# EAGLE library part EPC8 (library altera)
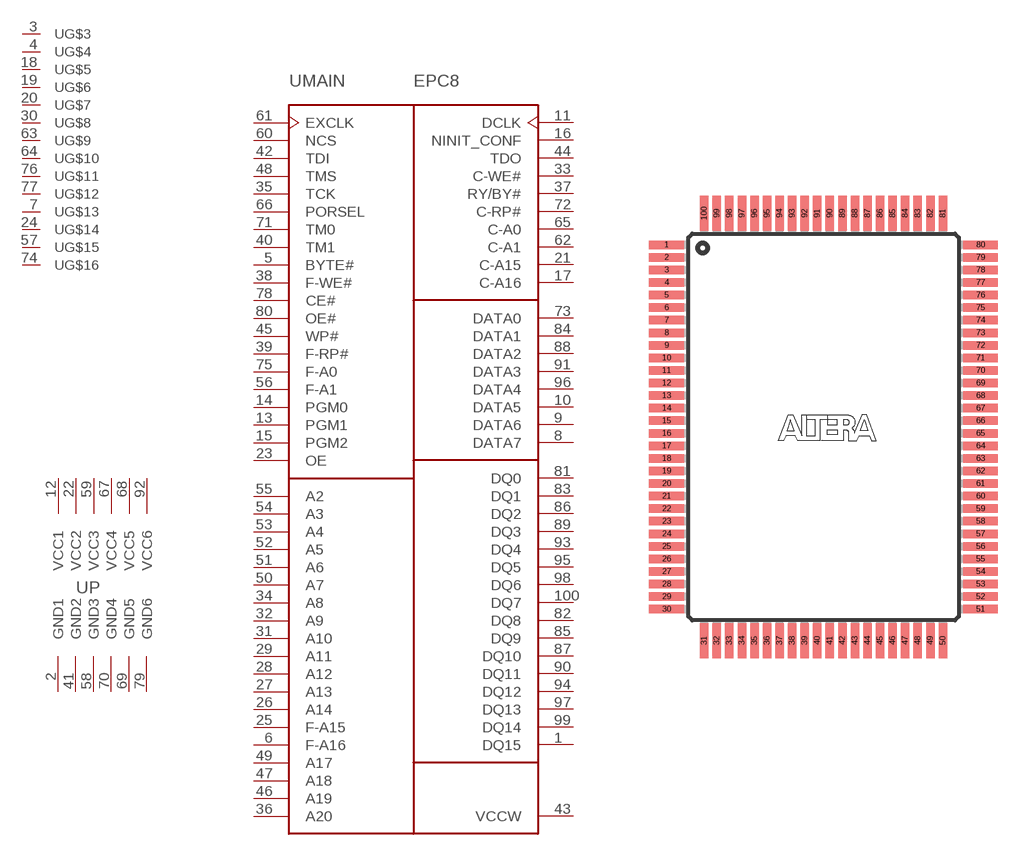
[diagram p65: symbol with the pads of PQFP100; footprint PQFP100]

Designator prefix -; gates MAIN=EPC8 P=EPC8_P G$3=NC G$4=NC G$5=NC G$6=NC G$7=NC G$8=NC G$9=NC G$10=NC G$11=NC G$12=NC G$13=NC G$14=NC G$15=NC G$16=NC

## EPC8  [PQFP100]
1  MAIN:DQ15
2  P:GND1  pwr
3  G$3:NC  nc
4  G$4:NC  nc
5  MAIN:BYTE#  in
6  MAIN:F-A16  in
7  G$13:NC  nc
8  MAIN:DATA7  out
9  MAIN:DATA6  out
10  MAIN:DATA5  out
11  MAIN:DCLK  out
12  P:VCC1  pwr
13  MAIN:PGM1  in
14  MAIN:PGM0  in
15  MAIN:PGM2  in
16  MAIN:NINIT_CONF  out
17  MAIN:C-A16  out
18  G$5:NC  nc
19  G$6:NC  nc
20  G$7:NC  nc
21  MAIN:C-A15  out
22  P:VCC2  pwr
23  MAIN:OE
24  G$14:NC  nc
25  MAIN:F-A15  in
26  MAIN:A14  in
27  MAIN:A13  in
28  MAIN:A12  in
29  MAIN:A11  in
30  G$8:NC  nc
31  MAIN:A10  in
32  MAIN:A9  in
33  MAIN:C-WE#  out
34  MAIN:A8  in
35  MAIN:TCK  in
36  MAIN:A20  in
37  MAIN:RY/BY#  out
38  MAIN:F-WE#  in
39  MAIN:F-RP#  in
40  MAIN:TM1  in
41  P:GND2  pwr
42  MAIN:TDI  in
43  MAIN:VCCW  pwr
44  MAIN:TDO  out
45  MAIN:WP#  in
46  MAIN:A19  in
47  MAIN:A18  in
48  MAIN:TMS  in
49  MAIN:A17  in
50  MAIN:A7  in
51  MAIN:A6  in
52  MAIN:A5  in
53  MAIN:A4  in
54  MAIN:A3  in
55  MAIN:A2  in
56  MAIN:F-A1  in
57  G$15:NC  nc
58  P:GND3  pwr
59  P:VCC3  pwr
60  MAIN:NCS  in
61  MAIN:EXCLK  in
62  MAIN:C-A1  out
63  G$9:NC  nc
64  G$10:NC  nc
65  MAIN:C-A0  out
66  MAIN:PORSEL  in
67  P:VCC4  pwr
68  P:VCC5  pwr
69  P:GND5  pwr
70  P:GND4  pwr
71  MAIN:TM0  in
72  MAIN:C-RP#  out
73  MAIN:DATA0  out
74  G$16:NC  nc
75  MAIN:F-A0  in
76  G$11:NC  nc
77  G$12:NC  nc
78  MAIN:CE#  in
79  P:GND6  pwr
80  MAIN:OE#  in
81  MAIN:DQ0
82  MAIN:DQ8
83  MAIN:DQ1
84  MAIN:DATA1  out
85  MAIN:DQ9
86  MAIN:DQ2
87  MAIN:DQ10
88  MAIN:DATA2  out
89  MAIN:DQ3
90  MAIN:DQ11
91  MAIN:DATA3  out
92  P:VCC6  pwr
93  MAIN:DQ4
94  MAIN:DQ12
95  MAIN:DQ5
96  MAIN:DATA4  out
97  MAIN:DQ13
98  MAIN:DQ6
99  MAIN:DQ14
100  MAIN:DQ7

## Footprint PQFP100 (pad centres in mm)
Plastic Quad Flat Pack
smd 1.8 x 0.44: 1 -8.125,9.425; 2 -8.125,8.775; 3 -8.125,8.125; 4 -8.125,7.475; 5 -8.125,6.825; 6 -8.125,6.175; 7 -8.125,5.525; 8 -8.125,4.875; 9 -8.125,4.225; 10 -8.125,3.575; 11 -8.125,2.925; 12 -8.125,2.275; 13 -8.125,1.625; 14 -8.125,0.975; 15 -8.125,0.325; 16 -8.125,-0.325; 17 -8.125,-0.975; 18 -8.125,-1.625; 19 -8.125,-2.275; 20 -8.125,-2.925; 21 -8.125,-3.575; 22 -8.125,-4.225; 23 -8.125,-4.875; 24 -8.125,-5.525; 25 -8.125,-6.175; 26 -8.125,-6.825; 27 -8.125,-7.475; 28 -8.125,-8.125; 29 -8.125,-8.775; 30 -8.125,-9.425; 51 8.125,-9.425; 52 8.125,-8.775; 53 8.125,-8.125; 54 8.125,-7.475; 55 8.125,-6.825; 56 8.125,-6.175; 57 8.125,-5.525; 58 8.125,-4.875; 59 8.125,-4.225; 60 8.125,-3.575; 61 8.125,-2.925; 62 8.125,-2.275; 63 8.125,-1.625; 64 8.125,-0.975; 65 8.125,-0.325; 66 8.125,0.325; 67 8.125,0.975; 68 8.125,1.625; 69 8.125,2.275; 70 8.125,2.925; 71 8.125,3.575; 72 8.125,4.225; 73 8.125,4.875; 74 8.125,5.525; 75 8.125,6.175; 76 8.125,6.825; 77 8.125,7.475; 78 8.125,8.125; 79 8.125,8.775; 80 8.125,9.425
smd 0.44 x 1.8: 31 -6.175,-11.05; 32 -5.525,-11.05; 33 -4.875,-11.05; 34 -4.225,-11.05; 35 -3.575,-11.05; 36 -2.925,-11.05; 37 -2.275,-11.05; 38 -1.625,-11.05; 39 -0.975,-11.05; 40 -0.325,-11.05; 41 0.325,-11.05; 42 0.975,-11.05; 43 1.625,-11.05; 44 2.275,-11.05; 45 2.925,-11.05; 46 3.575,-11.05; 47 4.225,-11.05; 48 4.875,-11.05; 49 5.525,-11.05; 50 6.175,-11.05; 81 6.175,11.05; 82 5.525,11.05; 83 4.875,11.05; 84 4.225,11.05; 85 3.575,11.05; 86 2.925,11.05; 87 2.275,11.05; 88 1.625,11.05; 89 0.975,11.05; 90 0.325,11.05; 91 -0.325,11.05; 92 -0.975,11.05; 93 -1.625,11.05; 94 -2.275,11.05; 95 -2.925,11.05; 96 -3.575,11.05; 97 -4.225,11.05; 98 -4.875,11.05; 99 -5.525,11.05; 100 -6.175,11.05